# Altium schematic symbol library 1EDN8511BXUSA1.SchLib: 1 symbol
Pins are listed as number, name and electrical type; pins without a type are passive.

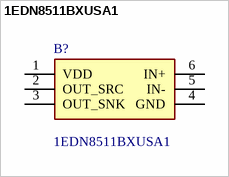
[diagram p0: symbol 1EDN8511BXUSA1]

## 1EDN8511BXUSA1
designator B?
INFINEON - 1EDN8511BXUSA1 - MOSFET DRIVER, -40 TO 150DEG C; Geometry.Height: 1.45mm; Mouser Part Number: 726-1EDN8511BXUSA1; Mouser Price/Stock: https://www.mouser.co.uk/ProductDetail/Infineon-Technologies/1EDN8511BXUSA1?qs=W0yvOO0ixfGKnnVISnHd5g%3D%3D; Manufacturer_Name: Infineon; Manufacturer_Part_Number: 1EDN8511BXUSA1; Datasheet Link: https://www.infineon.com/cms/en/product/power/gate-driver-ics/?
footprint SOT95P280X145-6N
pins: 1 VDD, 2 OUT_SRC, 3 OUT_SNK, 4 GND, 5 IN-, 6 IN+